# EAGLE library part KX14-70K5DE (library con-jae)
SOCKET, VERTICAL, 0.8MM, 70WAY
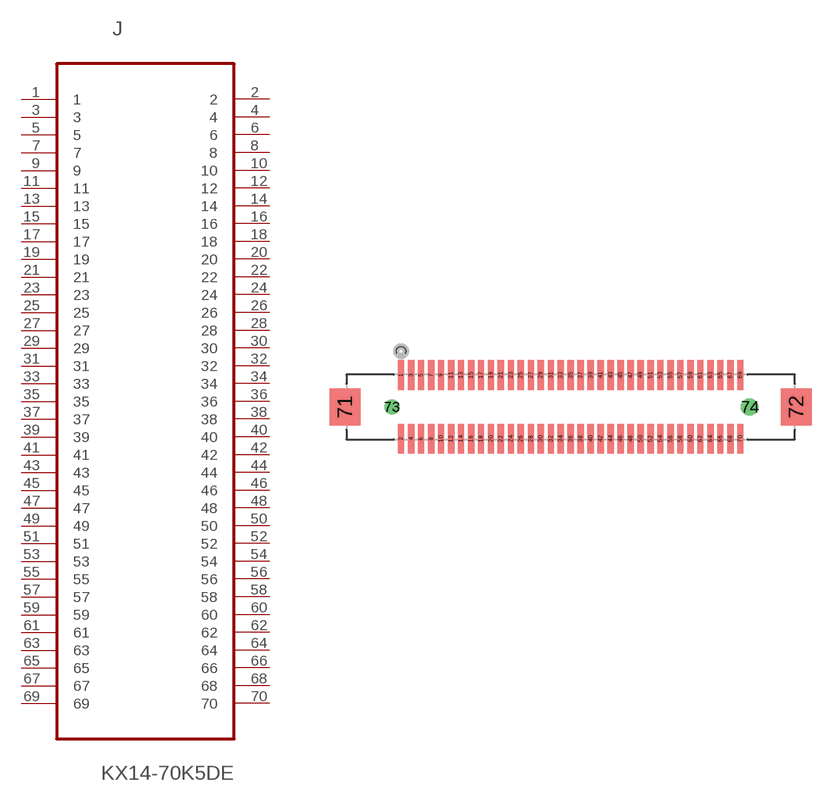
[diagram p18: symbol with the pads of JAE_KX14-70K5DE; footprint JAE_KX14-70K5DE]

Designator prefix J

## KX14-70K5DE (DATASHEETLINK: http://www.jae.com/z-en/pdf_download_exec.cfm?param=SJ110100.pdf; DESCRIPTION: SOCKET, VERTICAL, 0.8MM, 70WAY; MPN: KX14-70K5DE; OC_FARNELL: 1519654; OC_NEWARK: 74M2550; ROHS: Yes; SUPPLIER: JAE)  [JAE_KX14-70K5DE]
1  1  pas
2  2  pas
3  3  pas
4  4  pas
5  5  pas
6  6  pas
7  7  pas
8  8  pas
9  9  pas
10  10  pas
11  11  pas
12  12  pas
13  13  pas
14  14  pas
15  15  pas
16  16  pas
17  17  pas
18  18  pas
19  19  pas
20  20  pas
21  21  pas
22  22  pas
23  23  pas
24  24  pas
25  25  pas
26  26  pas
27  27  pas
28  28  pas
29  29  pas
30  30  pas
31  31  pas
32  32  pas
33  33  pas
34  34  pas
35  35  pas
36  36  pas
37  37  pas
38  38  pas
39  39  pas
40  40  pas
41  41  pas
42  42  pas
43  43  pas
44  44  pas
45  45  pas
46  46  pas
47  47  pas
48  48  pas
49  49  pas
50  50  pas
51  51  pas
52  52  pas
53  53  pas
54  54  pas
55  55  pas
56  56  pas
57  57  pas
58  58  pas
59  59  pas
60  60  pas
61  61  pas
62  62  pas
63  63  pas
64  64  pas
65  65  pas
66  66  pas
67  67  pas
68  68  pas
69  69  pas
70  70  pas

## Footprint JAE_KX14-70K5DE (pad centres in mm)
smd 0.508 x 2.388: 1 -27.203,5.105; 2 -27.203,0; 3 -26.391,5.105; 4 -26.391,0; 5 -25.603,5.105; 6 -25.603,0; 7 -24.79,5.105; 8 -24.79,0; 9 -24.003,5.105; 10 -24.003,0; 11 -23.19,5.105; 12 -23.19,0; 13 -22.403,5.105; 14 -22.403,0; 15 -21.59,5.105; 16 -21.59,0; 17 -20.803,5.105; 18 -20.803,0; 19 -19.99,5.105; 20 -19.99,0; 21 -19.202,5.105; 22 -19.202,0; 23 -18.39,5.105; 24 -18.39,0; 25 -17.602,5.105; 26 -17.602,0; 27 -16.789,5.105; 28 -16.789,0; 29 -16.002,5.105; 30 -16.002,0; 31 -15.189,5.105; 32 -15.189,0; 33 -14.402,5.105; 34 -14.402,0; 35 -13.589,5.105; 36 -13.589,0; 37 -12.802,5.105; 38 -12.802,0; 39 -11.989,5.105; 40 -11.989,0; 41 -11.201,5.105; 42 -11.201,0; 43 -10.389,5.105; 44 -10.389,0; 45 -9.601,5.105; 46 -9.601,0; 47 -8.788,5.105; 48 -8.788,0; 49 -8.001,5.105; 50 -8.001,0; 51 -7.188,5.105; 52 -7.188,0; 53 -6.401,5.105; 54 -6.401,0; 55 -5.588,5.105; 56 -5.588,0; 57 -4.801,5.105; 58 -4.801,0; 59 -3.988,5.105; 60 -3.988,0; 61 -3.2,5.105; 62 -3.2,0; 63 -2.388,5.105; 64 -2.388,0; 65 -1.6,5.105; 66 -1.6,0; 67 -0.787,5.105; 68 -0.787,0; 69 0,5.105; 70 0,0
smd 2.489 x 2.997: 71 -31.699,2.54; 72 4.496,2.54
drill 0.711: 73 -27.94,2.54
drill 0.889: 74 0.762,2.54